# Altium footprint library POWER DIODE.PcbLib: 1 footprints
Each footprint in its own frame and in the unit in brackets; x right, y up, seen from the top. Pads: shape width x height; smd on the part's side, far side on the other; paste and mask are expansions set on the pad; w line width, h text height; cw(c..) or ccw(c..) is an arc to the next point about the centre after c.
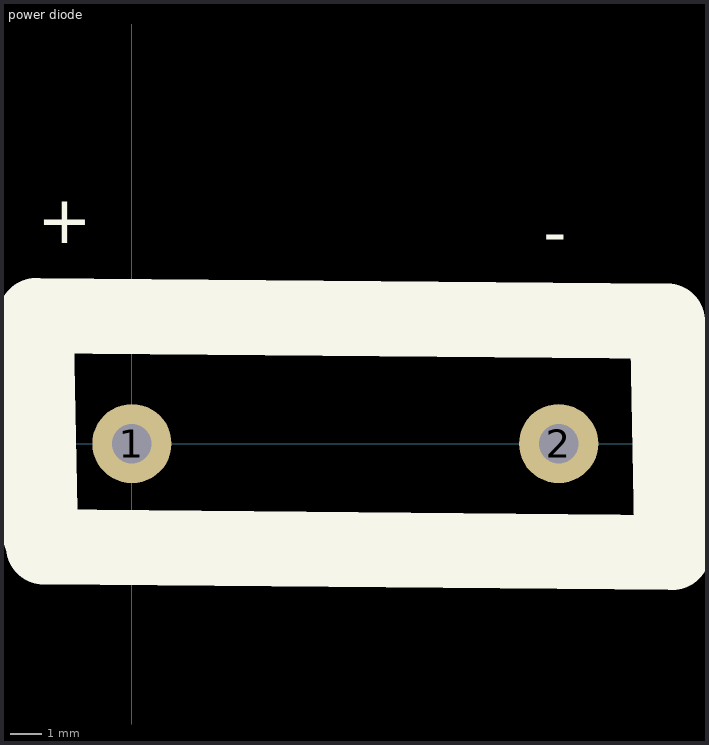
[diagram p0: the footprint, top view; thin cyan lines are the x and y axes]

## power diode [mm]
pads (2):
  round 2.524 hole 1.262: 1(0,0) 2(13.6,0)
Top Overlay:
  lines w2.4: -2.921,-2.921 -3.064,4.078 17.068,3.898 17.218,-3.467 -2.81,-3.288
  text "+" at -3.016,6.382 h1.52
  text "-" at 13.113,6.001 h1.52